# Altium footprint library RE_AXIAL-0_5.PcbLib: 1 footprints
Each footprint in its own frame and in the unit in brackets; x right, y up, seen from the top. Pads: shape width x height; smd on the part's side, far side on the other; paste and mask are expansions set on the pad; w line width, h text height; cw(c..) or ccw(c..) is an arc to the next point about the centre after c.
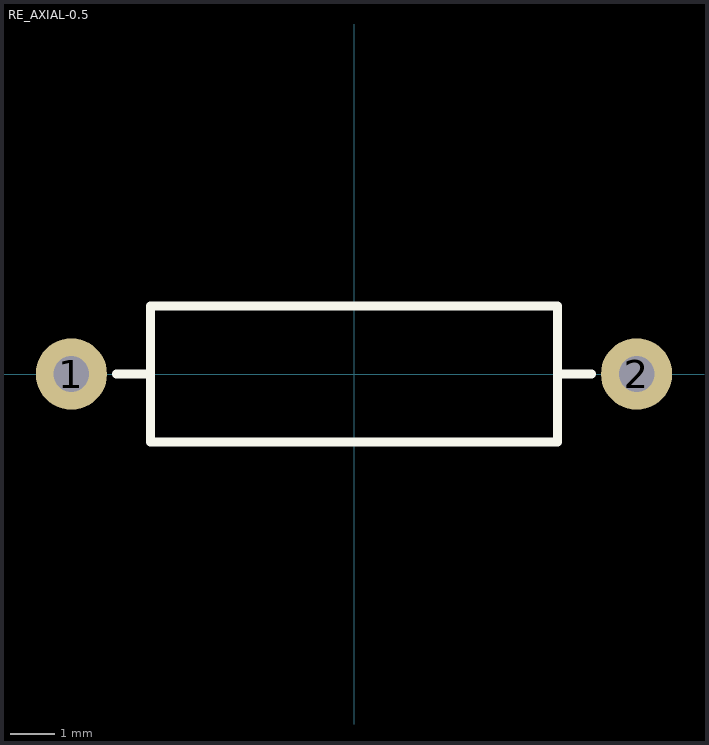
[diagram p0: the footprint, top view; thin cyan lines are the x and y axes]

## RE_AXIAL-0.5 [mm] "AXIAL-0.5"
height 2.54
pads (2):
  round 1.6 hole 0.8: 1(-6.35,0) 2(6.35,0)
Top Overlay:
  lines w0.2: -5.334,0 -4.572,0 ; 4.572,0 5.334,0 ; -4.572,-1.524 -4.572,1.524 4.572,1.524 4.572,-1.524 -4.572,-1.524
3D body: height 2.86, standoff -1.75, extent -6.731,-1.428 6.731,1.429